# EAGLE library part AD7705 (library AD7705)
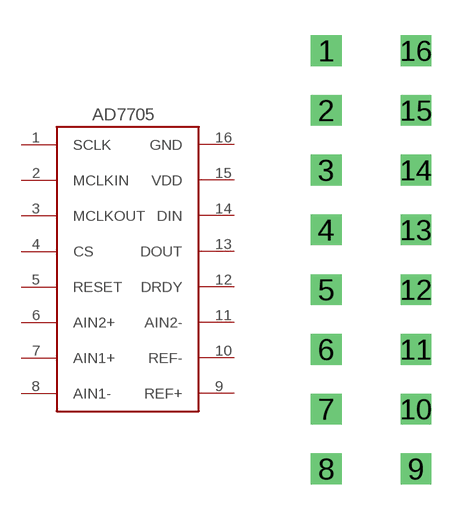
[diagram p0: symbol with the pads of AD7705BNC; footprint AD7705BNC]

Designator prefix -

## AD7705  [AD7705BNC]
1  SCLK
2  MCLKIN  in
3  MCLKOUT  out
4  CS  in
5  RESET  in
6  AIN2+  in
7  AIN1+  in
8  AIN1-  in
9  REF+  in
10  REF-  in
11  AIN2-  in
12  DRDY
13  DOUT
14  DIN
15  VDD  pwr
16  GND  in

## Footprint AD7705BNC (pad centres in mm)
drill 0.8 square: 1 -1.27,7.62; 2 -1.27,5.08; 3 -1.27,2.54; 4 -1.27,0; 5 -1.27,-2.54; 6 -1.27,-5.08; 7 -1.27,-7.62; 8 -1.27,-10.16; 9 2.54,-10.16; 10 2.54,-7.62; 11 2.54,-5.08; 12 2.54,-2.54; 13 2.54,0; 14 2.54,2.54; 15 2.54,5.08; 16 2.54,7.62